# Altium schematic symbol library Pin Header.SchLib: 1 symbol
Pins are listed as number, name and electrical type; pins without a type are passive.

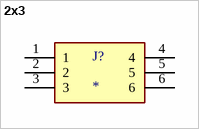
[diagram p0: symbol 2x3]

## 2x3
designator J?
Header; Breakaway; 0.100 x 0.100 in.; PC Board; Dual; 6; 0.025 in.; 0.12 in.; Product_Type: Connector; Number_of_Positions: 6; MP: 5-146257-3; MF: TE Connectivity; Centerline_Pitch: 2.54 mm[.1 in]; Package: None; EU_RoHS_Compliance: Compliant; DigiKey-Purchase-URL: https://snapeda.com/shop?store=DigiKey&id=338021; Value: *; Mouser-Purchase-URL: https://snapeda.com/shop?store=Mouser&id=338021; Availability: Warning; Price: None; SnapEDA_Link: https://www.snapeda.com/parts/5-146257-3/TE%20Connectivity%20AMP%20Connectors/view-part/338021/?ref=snap
footprint 2x3 (Footprint not found)
pins: 1, 2, 3, 4, 5, 6